# EAGLE library part STM32F0DISCOVERY-DEVICE (library stm32f0discovery)
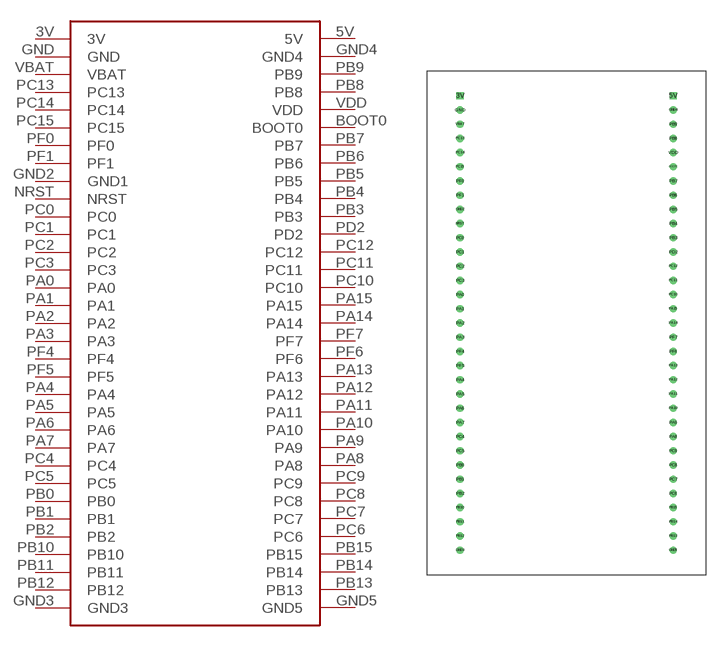
[diagram p0: symbol with the pads of STM32F0DISCOVERY-PACKAGE; footprint STM32F0DISCOVERY-PACKAGE]

Designator prefix -

## STM32F0DISCOVERY-DEVICE  [STM32F0DISCOVERY-PACKAGE]
3V  3V
5V  5V
BOOT0  BOOT0
GND  GND
GND2  GND1
GND3  GND3
GND4  GND4
GND5  GND5
NRST  NRST
PA0  PA0
PA1  PA1
PA2  PA2
PA3  PA3
PA4  PA4
PA5  PA5
PA6  PA6
PA7  PA7
PA8  PA8
PA9  PA9
PA10  PA10
PA11  PA11
PA12  PA12
PA13  PA13
PA14  PA14
PA15  PA15
PB0  PB0
PB1  PB1
PB2  PB2
PB3  PB3
PB4  PB4
PB5  PB5
PB6  PB6
PB7  PB7
PB8  PB8
PB9  PB9
PB10  PB10
PB11  PB11
PB12  PB12
PB13  PB13
PB14  PB14
PB15  PB15
PC0  PC0
PC1  PC1
PC2  PC2
PC3  PC3
PC4  PC4
PC5  PC5
PC6  PC6
PC7  PC7
PC8  PC8
PC9  PC9
PC10  PC10
PC11  PC11
PC12  PC12
PC13  PC13
PC14  PC14
PC15  PC15
PD2  PD2
PF0  PF0
PF1  PF1
PF4  PF4
PF5  PF5
PF6  PF6
PF7  PF7
VBAT  VBAT
VDD  VDD

## Footprint STM32F0DISCOVERY-PACKAGE (pad centres in mm)
drill 0.8 square: 3V -19.05,40.64; 5V 19.05,40.64
drill 0.8: BOOT0 19.05,27.94; GND -19.05,38.1; GND2 -19.05,20.32; GND3 -19.05,-40.64; GND4 19.05,38.1; GND5 19.05,-40.64; NRST -19.05,17.78; PA0 -19.05,5.08; PA1 -19.05,2.54; PA2 -19.05,0; PA3 -19.05,-2.54; PA4 -19.05,-10.16; PA5 -19.05,-12.7; PA6 -19.05,-15.24; PA7 -19.05,-17.78; PA8 19.05,-20.32; PA9 19.05,-17.78; PA10 19.05,-15.24; PA11 19.05,-12.7; PA12 19.05,-10.16; PA13 19.05,-7.62; PA14 19.05,0; PA15 19.05,2.54; PB0 -19.05,-25.4; PB1 -19.05,-27.94; PB2 -19.05,-30.48; PB3 19.05,15.24; PB4 19.05,17.78; PB5 19.05,20.32; PB6 19.05,22.86; PB7 19.05,25.4; PB8 19.05,33.02; PB9 19.05,35.56; PB10 -19.05,-33.02; PB11 -19.05,-35.56; PB12 -19.05,-38.1; PB13 19.05,-38.1; PB14 19.05,-35.56; PB15 19.05,-33.02; PC0 -19.05,15.24; PC1 -19.05,12.7; PC2 -19.05,10.16; PC3 -19.05,7.62; PC4 -19.05,-20.32; PC5 -19.05,-22.86; PC6 19.05,-30.48; PC7 19.05,-27.94; PC8 19.05,-25.4; PC9 19.05,-22.86; PC10 19.05,5.08; PC11 19.05,7.62; PC12 19.05,10.16; PC13 -19.05,33.02; PC14 -19.05,30.48; PC15 -19.05,27.94; PD2 19.05,12.7; PF0 -19.05,25.4; PF1 -19.05,22.86; PF4 -19.05,-5.08; PF5 -19.05,-7.62; PF6 19.05,-5.08; PF7 19.05,-2.54; VBAT -19.05,35.56; VDD 19.05,30.48